# Altium footprint library 12.5x12.5 SMD Inductor.PcbLib: 1 footprints
Each footprint in its own frame and in the unit in brackets; x right, y up, seen from the top. Pads: shape width x height; smd on the part's side, far side on the other; paste and mask are expansions set on the pad; w line width, h text height; cw(c..) or ccw(c..) is an arc to the next point about the centre after c.
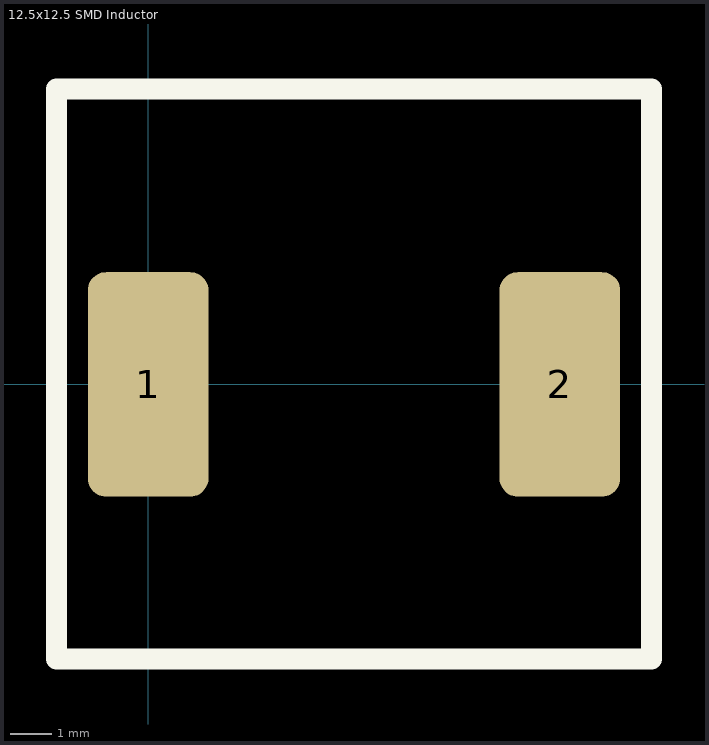
[diagram p0: the footprint, top view; thin cyan lines are the x and y axes]

## 12.5x12.5 SMD Inductor [mm]
pads (2):
  rrect30% 2.9x5.4 smd: 1(0,0) 2(9.9,0)
Top Overlay:
  lines w0.508: -2.2,-6.6 -2.2,7.1 12.1,7.1 12.1,-6.6 -2.2,-6.6
3D body: height 8, standoff 0, extent -1.3,-5.982 11.2,6.518